# Altium schematic symbol library IPD048N06L3 G.SchLib: 1 symbol
Pins are listed as number, name and electrical type; pins without a type are passive.

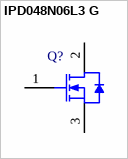
[diagram p0: symbol IPD048N06L3 G]

## IPD048N06L3 G
designator Q?
N-Channel OptiMOS 3 Power-Transistor, 60 V VDS, 90 A ID, -55 to 175 degC, PG-TO252-3-11, Reel, Green; Manufacturer: Infineon; PartNumber: IPD048N06L3 G; Green: TRUE; ID (max): 90 A; IDpuls (max): 360 A; Polarity: N; Ptot (max): 115 W; QG: 37 nC; RDS (on) (max): 4.8 mOhm; RDS (on) (max) (@4.5V): 8.2 mOhm; Rth: 1.3 K/W; RthJA (max): 62 K/W; VDS (max): 60 V; VGS(th) (max): 2.2 V; VGS(th) (min): 1.2 V; DatasheetVersion: Rev. 2.0; PackageVersion: Rev. 02, 03/2007; PackageReference: PG-TO252-3-11; PackageDescription: 3-Pin Plastic (Green) Transistor Single Outline Package, 6.57 x 6.1 mm Body, 2.29 mm Pitch; Supplier 1: Digi-Key; Supplier Part Number 1: IPD048N06L3 G-ND; Supplier 2: Mouser; Supplier Part Number 2: 726-IPD048N06L3G; Packing: Reel; RthJC (max): 1.3 K/W; Mounting Technology: Surface Mount; ComponentLink1Description: Manufacturer URL; ComponentLink1URL: http://www.infineon.com/; ComponentLink2Description: Datasheet; ComponentLink2URL: http://www.infineon.com/dgdl/IPD048N06L3_Rev2.pdf?folderId=db3a30431441fb5d01148ca9f1be0e77&fileId=db3a30431ddc9372011e2b4f496e4db0; ComponentLink3Description: Package Specification; ComponentLink3URL: http://www.infineon.com/dgdl/IPD160N04L_rev1.0.pdf?folderId=db3a3043163797a6011643468e7505a4&fileId=db3a3043163797a60116436401cf05cf
footprint INF-PG-TO252-3-11_A_N (DPAK, 3-Leads, Body 6.57x6.1mm, Pitch 2.29mm, IPC Medium Density)
footprint INF-PG-TO252-3-11_A_L (DPAK, 3-Leads, Body 6.57x6.1mm, Pitch 2.29mm, IPC High Density)
footprint INF-PG-TO252-3-11_A_M (DPAK, 3-Leads, Body 6.57x6.1mm, Pitch 2.29mm, IPC Low Density)
pins: 1 GATE, 2 DRAIN, 3 SOURCE